# EAGLE library part 25AA1024 (library Strutz Electronic Industries)
1MB SPI EEPROM from Microchip Comes in PDIP, SSOP, DFN
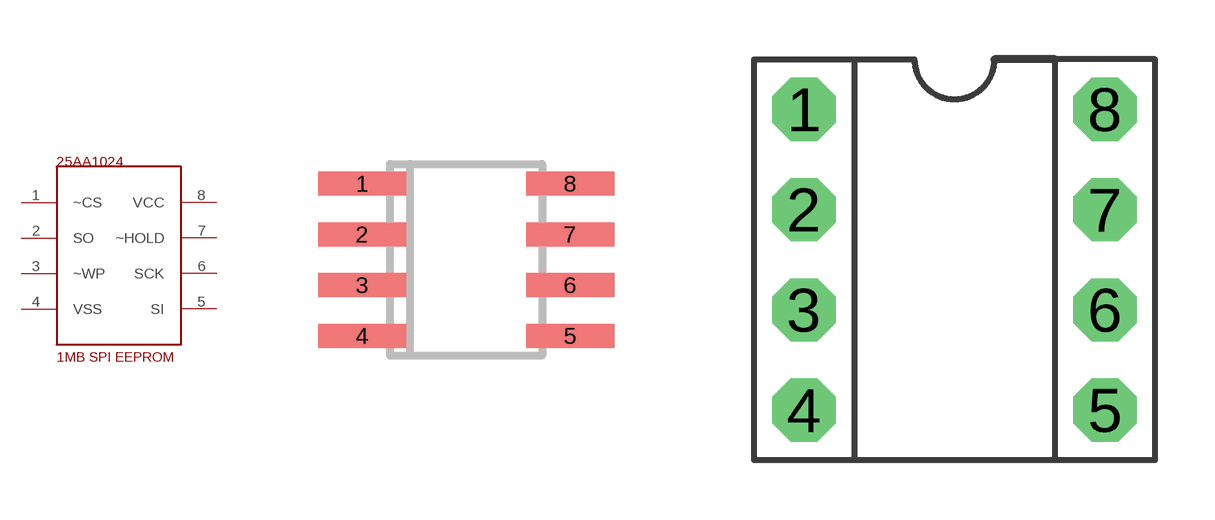
[diagram p33: symbol with the pads of SO8; footprints SO8, 8PDIP]

Designator prefix -

## 25AA1024SOIC  [SO8]
1  ~CS
2  SO
3  ~WP
4  VSS
5  SI
6  SCK
7  ~HOLD
8  VCC

## 25AA1024PDIP  [8PDIP]
Pads as for SO8

## 25AA1024DFN  [DFN8-5X6]
1  ~CS
2  SO
3  ~WP
4  VSS
5  SI
6  SCK
7  ~HOLD
8  VCC
PAD  VSS

## Footprint SO8 (pad centres in mm)
smd 2.2 x 0.6: 1 -2.6,1.905; 2 -2.6,0.635; 3 -2.6,-0.635; 4 -2.6,-1.905; 5 2.6,-1.905; 6 2.6,-0.635; 7 2.6,0.635; 8 2.6,1.905

## Footprint 8PDIP (pad centres in mm)
drill 0.813 pad 1.6 octagon: 1 -3.81,3.81; 2 -3.81,1.27; 3 -3.81,-1.27; 4 -3.81,-3.81; 5 3.81,-3.81; 6 3.81,-1.27; 7 3.81,1.27; 8 3.81,3.81

## Footprint DFN8-5X6 (pad centres in mm)
smd 0.4 x 0.6: 1 -1.95,-2.7; 2 -0.65,-2.7; 3 0.65,-2.7; 4 1.95,-2.7; 5 1.95,2.7; 6 0.65,2.7; 7 -0.65,2.7; 8 -1.95,2.7
smd 4 x 2.31: PAD 0,0